# Altium schematic symbol library JST.SchLib: 18 symbols
Pins are listed as number, name and electrical type; pins without a type are passive.

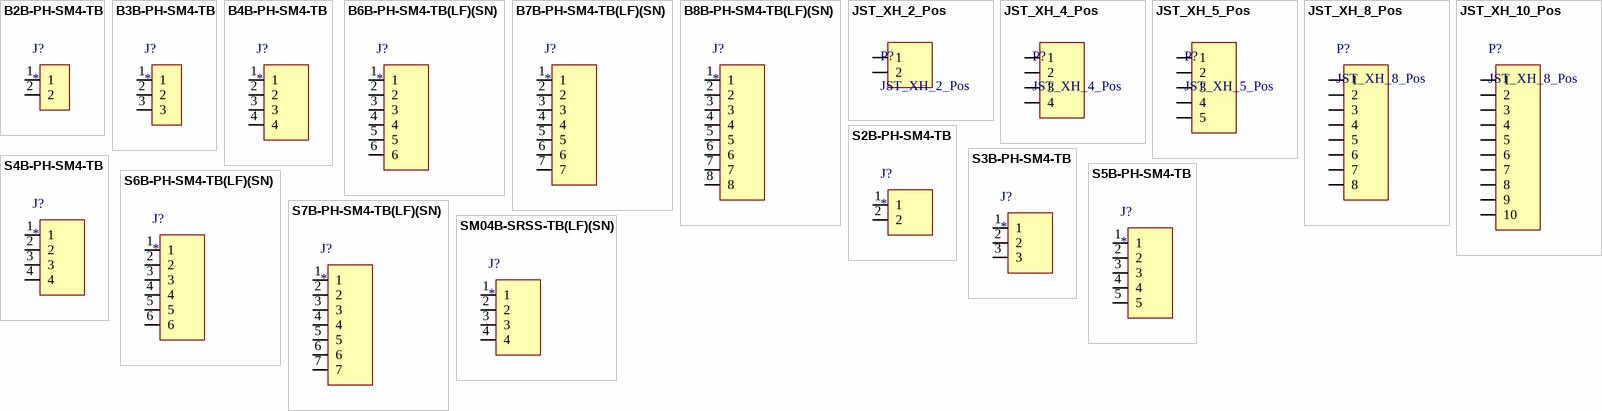
[diagram p0: symbols B2B-PH-SM4-TB to SM04B-SRSS-TB(LF)(SN)]

## B2B-PH-SM4-TB
designator J?
Connector Header Surface Mount 2 position 0.079 (2.00mm); MP: B2B-PH-SM4-TB; MF: JST; Check_prices: https://www.snapeda.com/parts/B2B-PH-SM4-TB/JST/view-part/?ref=eda; Package: NON STANDARD-2 JST; Value: *; Purchase-URL: https://pricing.snapeda.com/search/part/B2B-PH-SM4-TB/?ref=eda; SnapEDA_Link: https://www.snapeda.com/parts/B2B-PH-SM4-TB/JST/view-part/?ref=snap; Availability: In Stock; Price: None; Supplier 1: Digikey; Supplier Part Number 1: 455-B2B-PH-SM4-TBCT-ND
footprint JST_B2B-PH-SM4-TB
pins: 1, 2

## B3B-PH-SM4-TB
designator J?
Connector Header Surface Mount 3 position 0.079 _2.00mm_; MP: B3B-PH-SM4-TB; MF: JST Sales; Price: None; Value: *; Package: None; SnapEDA_Link: https://www.snapeda.com/parts/B3B-PH-SM4-TB/JST%20Sales%20America%20Inc./view-part/473683/?ref=snap; Availability: Unavailable; Supplier 1: Digikey; Supplier Part Number 1: 455-B3B-PH-SM4-TBCT-ND
footprint JST_B3B-PH-SM4-TB
pins: 1, 2, 3

## B4B-PH-SM4-TB
designator J?
Connector Header Surface Mount 4 position 0.079 (2.00mm); MP: B4B-PH-SM4-TB; MF: JST Sales; Availability: In Stock; SnapEDA_Link: https://www.snapeda.com/parts/B4B-PH-SM4-TB/JST+Sales+America+Inc./view-part/?ref=snap; Check_prices: https://www.snapeda.com/parts/B4B-PH-SM4-TB/JST+Sales+America+Inc./view-part/?ref=eda; Value: *; Price: None; Purchase-URL: https://pricing.snapeda.com/search/part/B4B-PH-SM4-TB/?ref=eda; Package: NON STANDARD-4 JST; Supplier 1: Digikey; Supplier Part Number 1: 455-B4B-PH-SM4-TBCT-ND
footprint JST_B4B-PH-SM4-TB
pins: 1, 2, 3, 4

## B6B-PH-SM4-TB(LF)(SN)
designator J?
PH Series 2 mm Pitch 6 Position SMT Single Row Top Entry Shrouded Header; MP: B6B-PH-SM4-TB(LF)(SN); Price: None; Value: *; Package: None; Availability: Unavailable; Supplier 1: Digikey; Supplier Part Number 1: 455-B6B-PH-SM4-TBCT-ND
footprint JST_B6B-PH-SM4-TB(LF)(SN)
pins: 1, 2, 3, 4, 5, 6

## B7B-PH-SM4-TB(LF)(SN)
designator J?
PH Series 2 mm Pitch 7 Position SMT Single Row Top Entry Shrouded Header; MP: B6B-PH-SM4-TB(LF)(SN); Price: None; Value: *; Package: None; Availability: Unavailable; Supplier 1: Newark; Supplier Part Number 1: 37K9978
footprint JST_B7B-PH-SM4-TB(LF)(SN)
pins: 1, 2, 3, 4, 5, 6, 7

## B8B-PH-SM4-TB(LF)(SN)
designator J?
PH Series 2 mm Pitch 8 Position SMT Single Row Top Entry Shrouded Header; MP: B6B-PH-SM4-TB(LF)(SN); Price: None; Value: *; Package: None; Availability: Unavailable; Supplier 1: Newark; Supplier Part Number 1: 455-B8B-PH-SM4-TBCT-ND
footprint CONN_B8B-PH-SM4-TB_JST
pins: 1, 2, 3, 4, 5, 6, 7, 8

## JST_XH_2_Pos
designator P?
CONN HEADER VERT 2POS 2.5MM; Supplier 1: Digi-Key; Supplier Part Number 1: 455-2247-ND; Mounted: Yes; Package / Case: TH; Volt: N/A
footprint JST_XH_2_Pos
pins: 1, 2

## JST_XH_4_Pos
designator P?
CONN HEADER VERT 4POS 2.5MM; Supplier 1: Digi-Key; Supplier Part Number 1: 455-2237-ND; Mounted: Yes; Package / Case: TH; Volt: N/A
footprint JST_XH_4_Pos
pins: 1, 2, 3, 4

## JST_XH_5_Pos
designator P?
CONN HEADER VERT 5POS 2.5MM; Supplier 1: Digi-Key; Supplier Part Number 1: 455-2270-ND; Mounted: Yes; Package / Case: TH; Volt: N/A
footprint JST_XH_5_Pos
pins: 1, 2, 3, 4, 5

## JST_XH_8_Pos
designator P?
CONN HEADER VERT 8POS 2.5MM; Supplier 1: Digi-Key; Supplier Part Number 1: 455-B8B-XH-A-ND; Mounted: Yes; Package / Case: TH; Volt: N/A; Help URL: https://www.jst-mfg.com/product/pdf/eng/eXH.pdf
footprint JST_XH_8_Pos
pins: 1, 2, 3, 4, 5, 6, 7, 8

## JST_XH_10_Pos
designator P?, comment JST_XH_8_Pos
CONN HEADER VERT 10POS 2.5MM; Supplier 1: Digi-Key; Supplier Part Number 1: 455-B10B-XH-A-ND; Mounted: Yes; Package / Case: TH; Volt: N/A; Help URL: https://www.jst-mfg.com/product/pdf/eng/eXH.pdf
footprint JST_XH_10_Pos
pins: 1, 2, 3, 4, 5, 6, 7, 8, 9, 10

## S2B-PH-SM4-TB
designator J?
Connector Header Surface Mount, Right Angle 2 position 0.079 (2.00mm); MP: S2B-PH-SM4-TB; MF: JST Sales; Parameter 1: 455-S2B-PH-SM4-TBCT-ND; Price: None; Availability: In Stock; Package: None; Value: *; SnapEDA_Link: https://www.snapeda.com/parts/S2B-PH-SM4-TB/JST+Sales+America+Inc./view-part/?ref=snap; Purchase-URL: https://pricing.snapeda.com/search/part/S2B-PH-SM4-TB/?ref=eda; Check_prices: https://www.snapeda.com/parts/S2B-PH-SM4-TB/JST+Sales+America+Inc./view-part/?ref=eda; Supplier 1: Digikey
footprint JST_S2B-PH-SM4-TB
pins: 1, 2

## S3B-PH-SM4-TB
designator J?
Connector Header Surface Mount, Right Angle 3 position 0.079 _2.00mm_; MF: JST Sales; MP: S3B-PH-SM4-TB; Availability: Unavailable; Price: None; Package: None; Value: *; SnapEDA_Link: https://www.snapeda.com/parts/S3B-PH-SM4-TB/JST%20Sales%20America%20Inc./view-part/473685/?ref=snap; Supplier 1: Digikey; Supplier Part Number 1: 455-S3B-PH-SM4-TBCT-ND
footprint JST_S3B-PH-SM4-TB
pins: 1, 2, 3

## S4B-PH-SM4-TB
designator J?
Connector Header Surface Mount, Right Angle 4 position 0.079 _2.00mm_; MF: JST Sales; MP: S4B-PH-SM4-TB; Package: None; Value: *; Availability: Unavailable; SnapEDA_Link: https://www.snapeda.com/parts/S4B-PH-SM4-TB/JST%20Sales%20America%20Inc./view-part/473686/?ref=snap; Price: None; Supplier 1: Digikey; Supplier Part Number 1: S4B-PH-SM4-TB
footprint JST_S4B-PH-SM4-TB
pins: 1, 2, 3, 4

## S5B-PH-SM4-TB
designator J?
Connector Header Surface Mount, Right Angle 5 position 0.079 _2.00mm_; MF: JST Sales; MP: S5B-PH-SM4-TB; Package: None; Value: *; Availability: Unavailable; SnapEDA_Link: https://www.snapeda.com/parts/S4B-PH-SM4-TB/JST%20Sales%20America%20Inc./view-part/473686/?ref=snap; Price: None; Supplier 1: Digikey; Supplier Part Number 1: 455-S5B-PH-SM4-TBCT-ND
footprint JST_S5B-PH-SM4-TB
pins: 1, 2, 3, 4, 5

## S6B-PH-SM4-TB(LF)(SN)
designator J?
Connector Header Surface Mount, Right Angle 6 position 0.079 _2.00mm_; MP: S6B-PH-SM4-TB_LF__SN_; MF: JST Sales; SnapEDA_Link: https://www.snapeda.com/parts/S6B-PH-SM4-TB_LF__SN_/JST%20Sales%20America%20Inc./view-part/491647/?ref=snap; Digi-Key_Part_Number: 455-1753-1-ND; Digi-Key_Purchase_URL: https://www.digikey.com/product-detail/en/jst-sales-america-inc/S6B-PH-SM4-TB_LF__SN_/455-1753-1-ND/926850?utm_source=snapeda&utm_medium=aggregator&utm_campaign=symbol; Value: *; Package: None; Supplier 1: Digikey; Supplier Part Number 1: 455-1753-1-ND
footprint JST_S6B-PH-SM4-TB(LF)(SN)
pins: 1, 2, 3, 4, 5, 6

## S7B-PH-SM4-TB(LF)(SN)
designator J?
Connector Header Surface Mount, Right Angle 7 position 0.079 _2.00mm_; MP: S6B-PH-SM4-TB_LF__SN_; MF: JST Sales; SnapEDA_Link: https://www.snapeda.com/parts/S6B-PH-SM4-TB_LF__SN_/JST%20Sales%20America%20Inc./view-part/491647/?ref=snap; Digi-Key_Part_Number: 455-1753-1-ND; Digi-Key_Purchase_URL: https://www.digikey.com/product-detail/en/jst-sales-america-inc/S6B-PH-SM4-TB_LF__SN_/455-1753-1-ND/926850?utm_source=snapeda&utm_medium=aggregator&utm_campaign=symbol; Value: *; Package: None; Supplier 1: Future Electronics; Supplier Part Number 1: 3646338
footprint JST_S7B-PH-SM4-TB(LF)(SN)
pins: 1, 2, 3, 4, 5, 6, 7

## SM04B-SRSS-TB(LF)(SN)
designator J?
SH Series 1.0 mm Pitch 2 Position Single Row Side Entry Shrouded Header; MP: SM04B-SRSS-TB(LF)(SN); Price: None; Value: *; Package: None; Availability: Unavailable; Supplier 1: Digikey; Supplier Part Number 1: 455-SM04B-SRSS-TBCT-ND
footprint JST_SM04B-SRSS-TB(LF)(SN)
pins: 1, 2, 3, 4